# Altium footprint library VTS.PcbLib: 1 footprints
Each footprint in its own frame and in the unit in brackets; x right, y up, seen from the top. Pads: shape width x height; smd on the part's side, far side on the other; paste and mask are expansions set on the pad; w line width, h text height; cw(c..) or ccw(c..) is an arc to the next point about the centre after c.
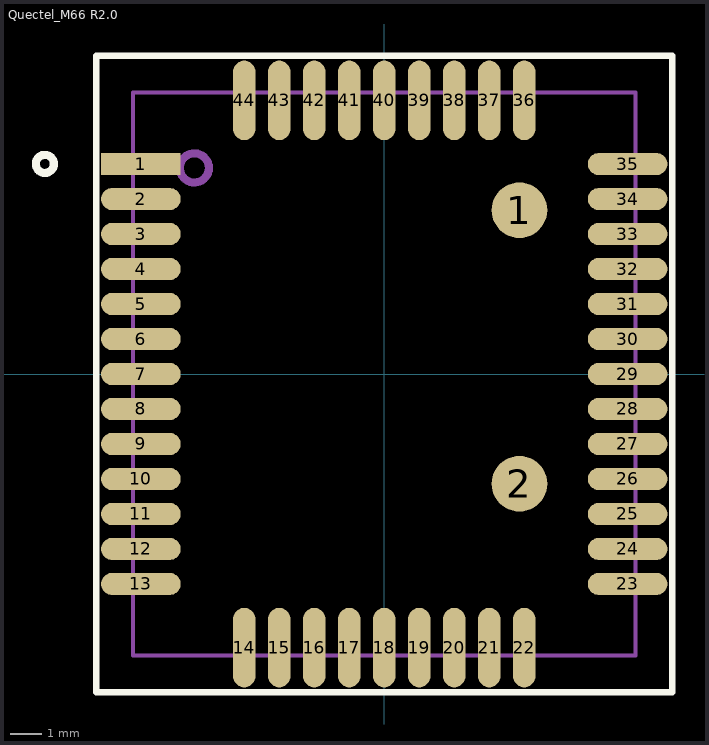
[diagram p0: the footprint, top view; thin cyan lines are the x and y axes]

## Quectel_M66 R2.0 [mm]
pads (46):
  rect 2.5x0.7 smd: 1(-7.65,6.6)
  round 1.75 smd: 1(4.25,5.15) 2(4.25,-3.45)
  oval 2.5x0.7 smd: 2(-7.65,5.5) 3(-7.65,4.4) 4(-7.65,3.3) 5(-7.65,2.2) 6(-7.65,1.1) 7(-7.65,0) 8(-7.65,-1.1) 9(-7.65,-2.2) 10(-7.65,-3.3) 11(-7.65,-4.4) 12(-7.65,-5.5) 13(-7.65,-6.6) 23(7.65,-6.6) 24(7.65,-5.5) 25(7.65,-4.4) 26(7.65,-3.3) 27(7.65,-2.2) 28(7.65,-1.1) 29(7.65,0) 30(7.65,1.1) 31(7.65,2.2) 32(7.65,3.3) 33(7.65,4.4) 34(7.65,5.5) 35(7.65,6.6)
  oval 0.7x2.5 smd: 14(-4.4,-8.6) 15(-3.3,-8.6) 16(-2.2,-8.6) 17(-1.1,-8.6) 18(0,-8.6) 19(1.1,-8.6) 20(2.2,-8.6) 21(3.3,-8.6) 22(4.4,-8.6) 36(4.4,8.6) 37(3.3,8.6) 38(2.2,8.6) 39(1.1,8.6) 40(0,8.6) 41(-1.1,8.6) 42(-2.2,8.6) 43(-3.3,8.6) 44(-4.4,8.6)
Top Overlay:
  circle w0.254: c-10.668,6.604 r0.284
  lines w0.203: -9.05,-10 -9.05,10 9.05,10 9.05,-10 -9.05,-10
Assembly Text Top:
  text ".Designator" at 0,0 h1.52
Assembly Top:
  circle w0.254: c-5.969,6.477 r0.458
  lines w0.127: -7.9,-8.85 -7.9,8.85 7.9,8.85 7.9,-8.85 -7.9,-8.85
3D body: height 2.3, standoff 0, extent -7.9,-8.85 7.9,8.85